# Altium footprint library PCB - CONNECTOR - SAMTEC TFM-110-XX-S-S-A.PCBLIB: 2 footprints
Each footprint in its own frame and in the unit in brackets; x right, y up, seen from the top. Pads: shape width x height; smd on the part's side, far side on the other; paste and mask are expansions set on the pad; w line width, h text height; cw(c..) or ccw(c..) is an arc to the next point about the centre after c.
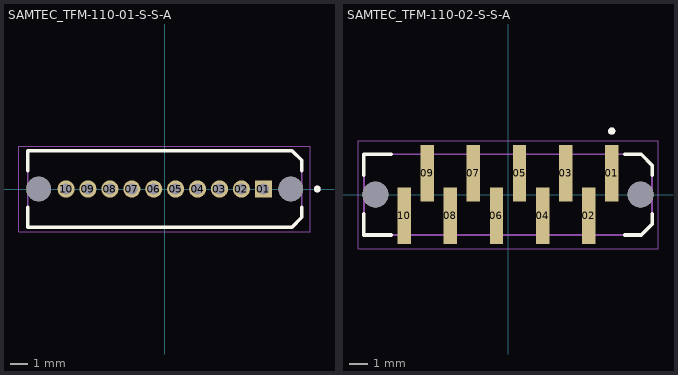
[diagram p0: the footprints below, top view; thin cyan lines are the x and y axes]

## SAMTEC_TFM-110-01-S-S-A [mm]
pads (12):
  rect 0.99x0.99 / inner round 0.99 / far side rect 0.99x0.99 hole 0.64: 01(5.715,0)
  round 0.99 hole 0.64: 02(4.445,0) 03(3.175,0) 04(1.905,0) 05(0.635,0) 06(-0.635,0) 07(-1.905,0) 08(-3.175,0) 09(-4.445,0) 10(-5.715,0)
  round 1.42 hole 1.42 unplated: ""(-7.305,0) ""(7.305,0)
Top Overlay:
  circle w0.2: c8.84,0 r0.1
  lines w0.2: -7.94,-1.064 -7.94,-2.225 7.359,-2.225 ; -7.94,1.064 -7.94,2.225 7.375,2.225 7.94,1.66 7.94,1.064 ; 7.375,-2.209 7.94,-1.644 7.94,-1.064
Top Assembly:
  circle w0.2: c8.84,0 r0.1
  lines w0.1: -7.94,-2.225 -7.94,2.225 7.375,2.225 7.94,1.66 7.94,-1.695 7.41,-2.225 -7.94,-2.225
Top Courtyard:
  lines w0.05: -8.44,-2.475 8.44,-2.475 8.44,2.475 -8.44,2.475 -8.44,-2.475
Top Designator:
  text ".Designator" at -1.65,-0.55 h1.2
3D body "TFM-110-01-S-S-A.stp": height 5.59, standoff -1.98, extent -7.938,-2.222 7.938,2.222

## SAMTEC_TFM-110-02-S-S-A [mm]
pads (12):
  rect 0.74x3.12 smd: 01(5.715,1.17) 02(4.445,-1.17) 03(3.175,1.17) 04(1.905,-1.17) 05(0.635,1.17) 06(-0.635,-1.17) 07(-1.905,1.17) 08(-3.175,-1.17) 09(-4.445,1.17) 10(-5.715,-1.17)
  round 1.42 hole 1.42 unplated: ""(-7.305,0) ""(7.305,0)
Top Overlay:
  circle w0.2: c5.715,3.5 r0.1
  lines w0.2: -7.94,-1.06 -7.94,-2.225 -6.435,-2.225 ; -7.94,1.06 -7.94,2.225 -6.435,2.225 ; 6.435,-2.225 7.34,-2.225 7.94,-1.625 7.94,-1.06 ; 6.435,2.225 7.34,2.225 7.94,1.625 7.94,1.06
Top Assembly:
  circle w0.2: c5.715,3.5 r0.1
  lines w0.1: -7.94,-2.225 7.34,-2.225 7.94,-1.625 7.94,1.625 7.34,2.225 -7.94,2.225 -7.94,-2.225
Top Courtyard:
  lines w0.05: -8.265,-2.98 8.265,-2.98 8.265,2.98 -8.265,2.98 -8.265,-2.98
Top Designator:
  text ".Designator" at -2.05,-0.45 h1.2
3D body "TFM-110-02-S-S-A.stp": height 5.59, standoff -1.14, extent -7.938,-2.349 7.938,2.349